# Altium integrated library TI Amplifiers and Linear Special Function Amplifier.IntLib: 708 symbols (part 3 of 47)
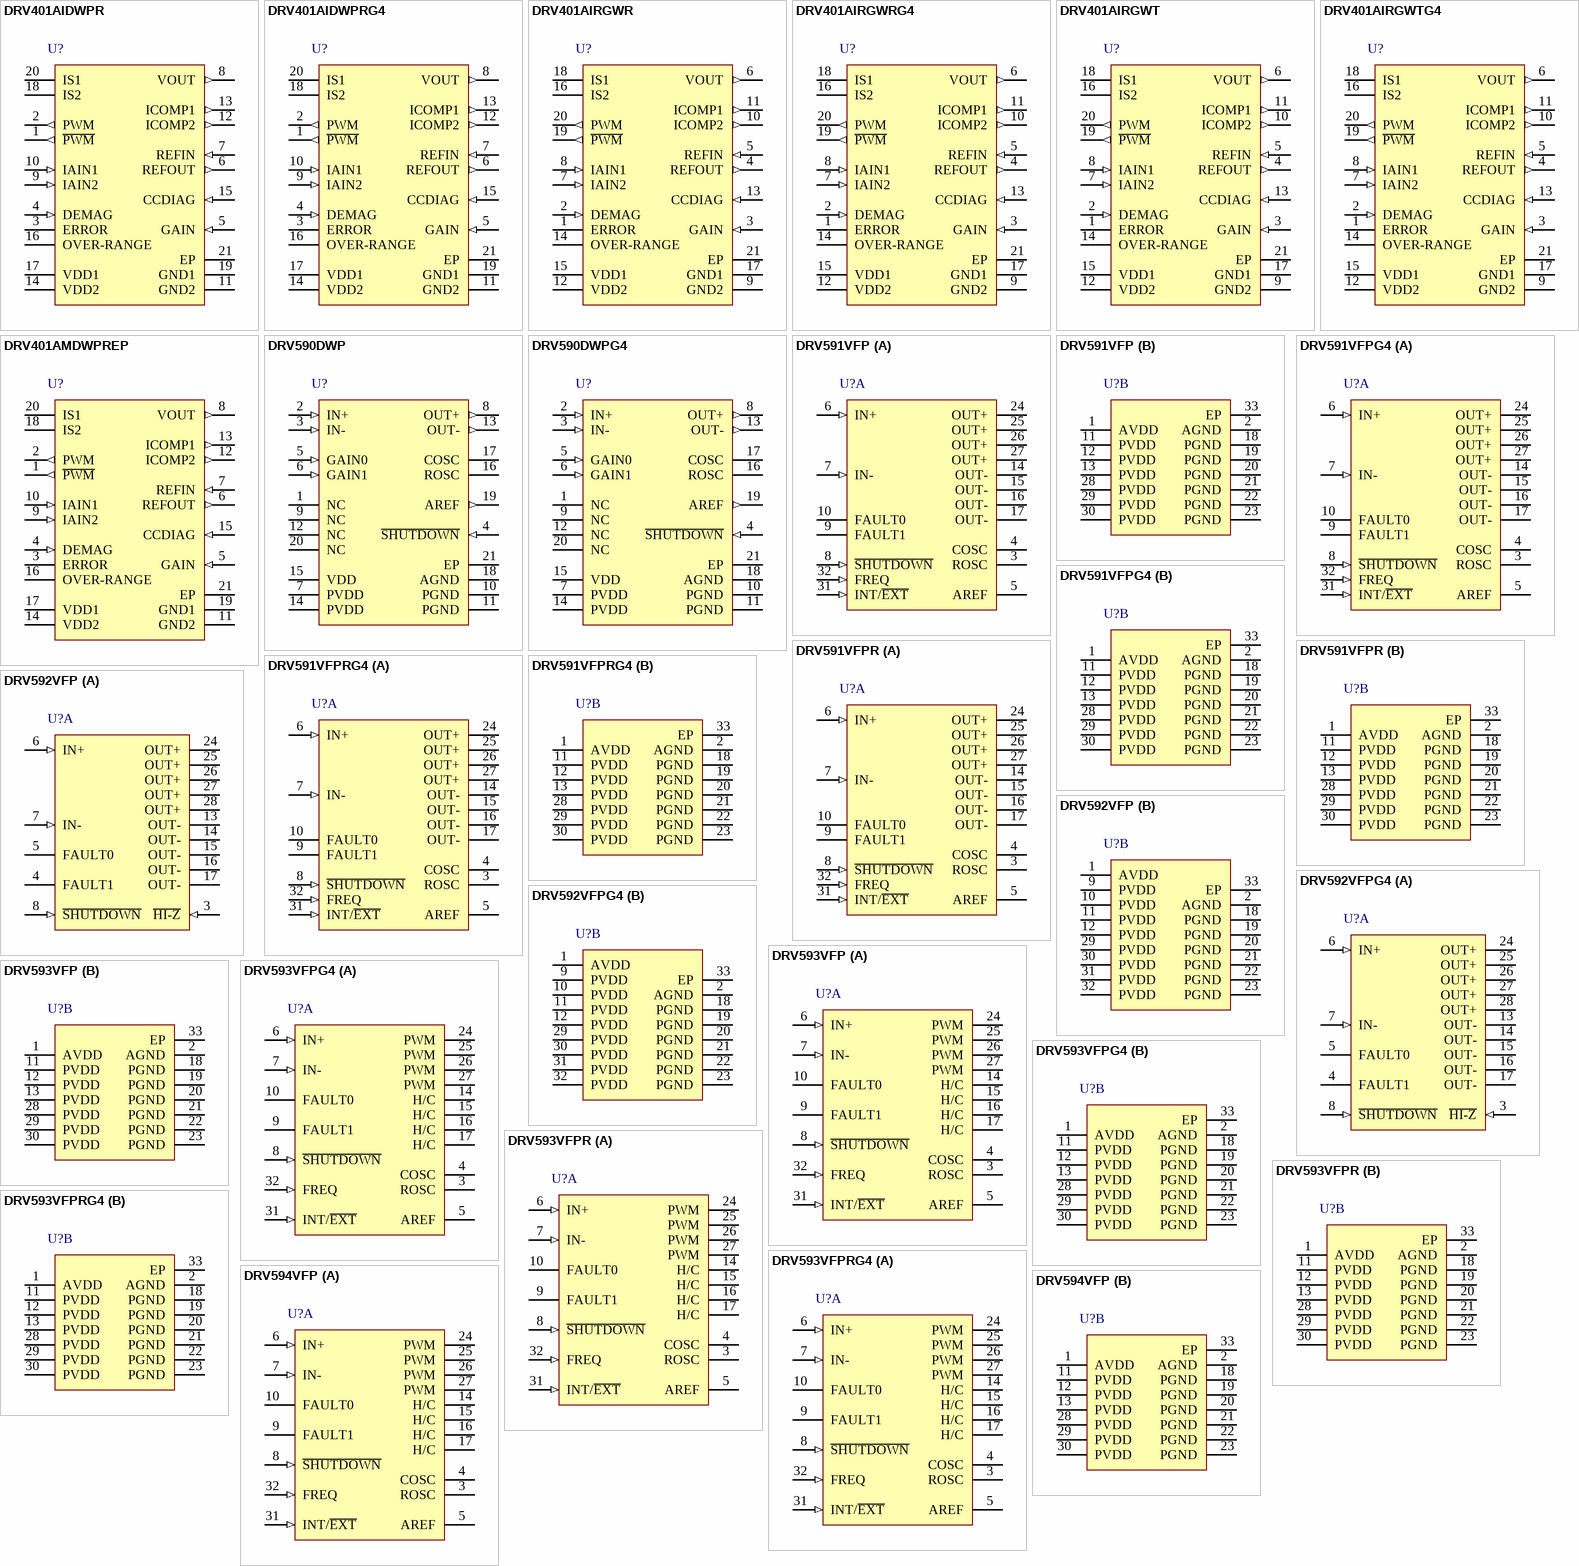
[diagram p41: symbols DRV401AIDWPR to DRV594VFP]

## DRV401AMDWPREP
designator U?
Enhanced Product Sensor Signal Conditioning for Closed-Loop Magnetic Current Sensor, -50 to 150 degC, 20-pin SOP (DWP20), Green (RoHS & no Sb/Br); Manufacturer: Texas Instruments; PartNumber: DRV401AMDWPREP; Iq(Max)(mA): 6.8; Vs(Max)(V): 5.5; Vs(Min)(V): 4.5; DatasheetVersion: SBVS104B; PackageVersion: 4147575/C, 02/2005; PackageReference: DWP20-3730X2350TP; PackageDescription: 20-Pin PowerPAD(TM) Plastic Small-Outline Package, Body 12.825 x 7.52 mm, Pitch 1.27 mm; Supplier 1: Digi-Key; Supplier Part Number 1: 296-23584-2-ND; Supplier 2: Digi-Key; Supplier Part Number 2: 296-23584-1-ND; Supplier 3: Digi-Key; Supplier Part Number 3: 296-23584-6-ND; Supplier 4: Mouser; Supplier Part Number 4: 595-DRV401AMDWPREP; Eco-Plan: Green (RoHS & no Sb/Br); Mounting Technology: Surface Mount; ComponentLink1Description: Manufacturer URL; ComponentLink1URL: http://www.ti.com/; ComponentLink2Description: Datasheet; ComponentLink2URL: http://www.ti.com/general/docs/lit/getliterature.tsp?genericPartNumber=DRV401-EP&fileType=pdf; ComponentLink3Description: Package Specification; ComponentLink3URL: http://www.ti.com/litv/pdf/mpds032b
footprint TI-DWP20-3730X2350TP_N (SOP, 20-Leads, Body 12.825x7.52mm, Pitch 1.27mm, Thermal Pad 3.47X2.35mm, IPC Medium Density)
footprint TI-DWP20-3730X2350TP_L (SOP, 20-Leads, Body 12.825x7.52mm, Pitch 1.27mm, Thermal Pad 3.47X2.35mm, IPC High Density)
footprint TI-DWP20-3730X2350TP_M (SOP, 20-Leads, Body 12.825x7.52mm, Pitch 1.27mm, Thermal Pad 3.47X2.35mm, IPC Low Density)
pins: 1 ~{PWM} (out) "PWM output from probe circuit (inverted).", 2 PWM (out) "PWM output from probe circuit.", 3 ERROR (oc) "Error flag: open-drain output, see the Error Conditions section.", 4 DEMAG (in) "Control input, see the Demagnetization section.", 5 GAIN (in) "Control input for open-loop gain: low = normal, high = -8 dB.", 6 REFOUT (out) "Output for internal 2.5 V reference voltage.", 7 REFIN (in) "Input for zero reference to differential amplifier.", 8 VOUT (out) "Output for differential amplifier.", 9 IAIN2 (in) "Connect to GND1.Noninverting input of differential amplifier.", 10 IAIN1 (in) "Inverting input of differential amplifier.", 11 GND2 (power) "Ground connection.", 12 ICOMP2 (out) "Output 2 of compensation coil driver.", 13 ICOMP1 (out) "Output 1 of compensation coil driver.", 14 VDD2 (power) "Supply voltage. Connect to VDD1.", 15 CCDIAG (in) "Control input for wire-break detection: high = enable.", 16 OVER-RANGE (oc) "Open-drain output for over-range indication: low = over-range.", 17 VDD1 (power) "Supply voltage.", 18 IS2 "Probe connection 2.", 19 GND1 (power) "Ground connection.", 20 IS1 "Probe connection 1.", 21 EP (power) "Connect to GND1."

## DRV590DWP
designator U?
High Efficiency PWM Power Driver, -40 to 85 degC, 20-pin SOP (DWP20), Green (RoHS & no Sb/Br); Manufacturer: Texas Instruments; PartNumber: DRV590DWP; High Current: TRUE; Iq(mA): 4.5; rDS(on)(Ohms): 0.5; Switching Frequency (Single-Ended)(kHz): 500; Vs(Max)(V): 5.5; Vs(Min)(V): 2.7; DatasheetVersion: SLOS365A; PackageVersion: 4147575/C, 02/2005; PackageReference: DWP20-3730X2350TP; PackageDescription: 20-Pin PowerPAD(TM) Plastic Small-Outline Package, Body 12.825 x 7.52 mm, Pitch 1.27 mm; Supplier 1: Digi-Key; Supplier Part Number 1: 296-12201-5-ND; Supplier 2: Mouser; Supplier Part Number 2: 595-DRV590DWP; Eco-Plan: Green (RoHS & no Sb/Br); Mounting Technology: Surface Mount; ComponentLink1Description: Manufacturer URL; ComponentLink1URL: http://www.ti.com/; ComponentLink2Description: Datasheet; ComponentLink2URL: http://www.ti.com/general/docs/lit/getliterature.tsp?genericPartNumber=DRV590&fileType=pdf; ComponentLink3Description: Package Specification; ComponentLink3URL: http://www.ti.com/litv/pdf/mpds032b
footprint TI-DWP20-3730X2350TP_N (SOP, 20-Leads, Body 12.825x7.52mm, Pitch 1.27mm, Thermal Pad 3.47X2.35mm, IPC Medium Density)
footprint TI-DWP20-3730X2350TP_L (SOP, 20-Leads, Body 12.825x7.52mm, Pitch 1.27mm, Thermal Pad 3.47X2.35mm, IPC High Density)
footprint TI-DWP20-3730X2350TP_M (SOP, 20-Leads, Body 12.825x7.52mm, Pitch 1.27mm, Thermal Pad 3.47X2.35mm, IPC Low Density)
pins: 1 NC "Not connected", 2 IN+ (in) "Positive differential input", 3 IN- (in) "Negative differential input", 4 ~{SHUTDOWN} (in) "Places the amplifier in shutdown mode if a TTL logic low is placed on this terminal,and normal operation if a TTL logic high is placed on this terminal.", 5 GAIN0 (in) "Bit 0 of gain control (TTL logic level)", 6 GAIN1 (in) "Bit 1 of gain control (TTL logic level)", 7 PVDD (power) "High-current power supplies (2)", 8 OUT+ (out) "Positive BTL output", 9 NC "Not connected", 10 PGND (power) "High-current grounds (2)", 11 PGND (power) "High-current grounds (2)", 12 NC "Not connected", 13 OUT- (out) "Negative BTL output", 14 PVDD (power) "High-current power supplies (2)", 15 VDD (power) "Analog power supply", 16 ROSC "Connect resistor to ground to set oscillation frequency (120 kohm).", 17 COSC "Connect capacitor to ground to set oscillation frequency (220 pF).", 18 AGND (power) "Analog ground", 19 AREF (out) "Connect capacitor to ground for AREF voltage filtering (1 uF).", 20 NC "Not connected", 21 EP

## DRV590DWPG4
designator U?
High Efficiency PWM Power Driver, -40 to 85 degC, 20-pin SOP (DWP20), Green (RoHS & no Sb/Br); Manufacturer: Texas Instruments; PartNumber: DRV590DWPG4; High Current: TRUE; Iq(mA): 4.5; rDS(on)(Ohms): 0.5; Switching Frequency (Single-Ended)(kHz): 500; Vs(Max)(V): 5.5; Vs(Min)(V): 2.7; DatasheetVersion: SLOS365A; PackageVersion: 4147575/C, 02/2005; PackageReference: DWP20-3730X2350TP; PackageDescription: 20-Pin PowerPAD(TM) Plastic Small-Outline Package, Body 12.825 x 7.52 mm, Pitch 1.27 mm; Supplier 1: Digi-Key; Supplier Part Number 1: DRV590DWPG4-ND; Supplier 2: Newark; Supplier Part Number 2: 41M3153; Supplier 3: Mouser; Supplier Part Number 3: 595-DRV590DWPG4; Eco-Plan: Green (RoHS & no Sb/Br); Mounting Technology: Surface Mount; ComponentLink1Description: Manufacturer URL; ComponentLink1URL: http://www.ti.com/; ComponentLink2Description: Datasheet; ComponentLink2URL: http://www.ti.com/general/docs/lit/getliterature.tsp?genericPartNumber=DRV590&fileType=pdf; ComponentLink3Description: Package Specification; ComponentLink3URL: http://www.ti.com/litv/pdf/mpds032b
footprint TI-DWP20-3730X2350TP_N (SOP, 20-Leads, Body 12.825x7.52mm, Pitch 1.27mm, Thermal Pad 3.47X2.35mm, IPC Medium Density)
footprint TI-DWP20-3730X2350TP_L (SOP, 20-Leads, Body 12.825x7.52mm, Pitch 1.27mm, Thermal Pad 3.47X2.35mm, IPC High Density)
footprint TI-DWP20-3730X2350TP_M (SOP, 20-Leads, Body 12.825x7.52mm, Pitch 1.27mm, Thermal Pad 3.47X2.35mm, IPC Low Density)
pins: 1 NC "Not connected", 2 IN+ (in) "Positive differential input", 3 IN- (in) "Negative differential input", 4 ~{SHUTDOWN} (in) "Places the amplifier in shutdown mode if a TTL logic low is placed on this terminal,and normal operation if a TTL logic high is placed on this terminal.", 5 GAIN0 (in) "Bit 0 of gain control (TTL logic level)", 6 GAIN1 (in) "Bit 1 of gain control (TTL logic level)", 7 PVDD (power) "High-current power supplies (2)", 8 OUT+ (out) "Positive BTL output", 9 NC "Not connected", 10 PGND (power) "High-current grounds (2)", 11 PGND (power) "High-current grounds (2)", 12 NC "Not connected", 13 OUT- (out) "Negative BTL output", 14 PVDD (power) "High-current power supplies (2)", 15 VDD (power) "Analog power supply", 16 ROSC "Connect resistor to ground to set oscillation frequency (120 kohm).", 17 COSC "Connect capacitor to ground to set oscillation frequency (220 pF).", 18 AGND (power) "Analog ground", 19 AREF (out) "Connect capacitor to ground for AREF voltage filtering (1 uF).", 20 NC "Not connected", 21 EP

## DRV591VFP
designator U?
High-Efficiency PWM Power Driver, -40 to 85 degC, 32-pin QFP (VFP32), Green (RoHS & no Sb/Br); Manufacturer: Texas Instruments; PartNumber: DRV591VFP; Iq(mA): 4.6; rDS(on)(Ohms): 0.065; Vs(Max)(V): 5.5; Vs(Min)(V): 2.8; DatasheetVersion: SLOS389A; PackageVersion: 4200791/C, 04/2012; PackageReference: VFP32-3505X3505TP; PackageDescription: 32-Pin PowerPAD(TM) Plastic Quad Flatpack, Body 7 x 7 mm, Pitch 0.8 mm; Supplier 1: Digi-Key; Supplier Part Number 1: 296-12430-ND; Supplier 2: Farnell; Supplier Part Number 2: 1212390; Supplier 3: Newark; Supplier Part Number 3: 80K7302; Supplier 4: Mouser; Supplier Part Number 4: 595-DRV591VFP; Eco-Plan: Green (RoHS & no Sb/Br); Mounting Technology: Surface Mount; Code_JEDEC: MS-026; ComponentLink1Description: Manufacturer URL; ComponentLink1URL: http://www.ti.com/; ComponentLink2Description: Datasheet; ComponentLink2URL: http://www.ti.com/general/docs/lit/getliterature.tsp?genericPartNumber=DRV591&fileType=pdf; ComponentLink3Description: Package Specification; ComponentLink3URL: http://www.ti.com/lit/ml/mpqf098b/mpqf098b.pdf
footprint TI-VFP32-3505X3505TP_N (QFP, 32-Leads, Body 7x7mm, Pitch 0.8mm, Thermal Pad 3.505x3.505mm, IPC Medium Density)
footprint TI-VFP32-3505X3505TP_L (QFP, 32-Leads, Body 7x7mm, Pitch 0.8mm, Thermal Pad 3.505x3.505mm, IPC High Density)
footprint TI-VFP32-3505X3505TP_M (QFP, 32-Leads, Body 7x7mm, Pitch 0.8mm, Thermal Pad 3.505x3.505mm, IPC Low Density)
part A pins: 3 ROSC "Connect 120kohm resistor to AGND to set oscillation frequency (either 500 kHz or 100 kHz). Not needed if an external clock is used.", 4 COSC "Connect capacitor to ground to set oscillation frequency (220 pF for 500 kHz, 1 nF for 100 kHz) when the internal oscillator is selected; connect clock signal when an external oscillator is used", 5 AREF "Connect 1 uF capacitor to ground for AREF voltage filtering", 6 IN+ (in) "Positive differential input", 7 IN- (in) "Negative differential input", 8 ~{SHUTDOWN} (in) "Places the amplifier in shutdown mode when a TTL logic low is applied to this terminal; places the amplifier in normal operation when a TTL logic high is applied", 9 FAULT1 (hiz) "Fault flag 1, high when active open drain output", 10 FAULT0 (hiz) "Fault flag 0, low when active open drain output", 14 OUT- (hiz) "Negative bridge-tied load (BTL) output", 15 OUT- (hiz) "Negative bridge-tied load (BTL) output", 16 OUT- (hiz) "Negative bridge-tied load (BTL) output", 17 OUT- (hiz) "Negative bridge-tied load (BTL) output", 24 OUT+ (hiz) "Positive bridge-tied load (BTL) output", 25 OUT+ (hiz) "Positive bridge-tied load (BTL) output", 26 OUT+ (hiz) "Positive bridge-tied load (BTL) output", 27 OUT+ (hiz) "Positive bridge-tied load (BTL) output", 31 INT/~{EXT} (in) "Selects the internal oscillator when a TTL logic high is applied to this terminal; selects the use of an external oscillator when a TTL logic low is applied to this terminal", 32 FREQ (in) "Selects 500 kHz switching frequency when a TTL logic low is applied to this terminal; selects 100 kHz switching frequency when a TTL logic high is applied"
part B pins: 1 AVDD (power) "Analog power supply", 2 AGND (power) "Analog ground", 11 PVDD (power) "High-current power supply", 12 PVDD (power) "High-current power supply", 13 PVDD (power) "High-current power supply", 18 PGND (power) "High-current ground", 19 PGND (power) "High-current ground", 20 PGND (power) "High-current ground", 21 PGND (power) "High-current ground", 22 PGND (power) "High-current ground", 23 PGND (power) "High-current ground", 28 PVDD (power) "High-current power supply", 29 PVDD (power) "High-current power supply", 30 PVDD (power) "High-current power supply", 33 EP (power) "Exposed Pad"

## DRV591VFPG4
designator U?
High-Efficiency PWM Power Driver, -40 to 85 degC, 32-pin QFP (VFP32), Green (RoHS & no Sb/Br); Manufacturer: Texas Instruments; PartNumber: DRV591VFPG4; Iq(mA): 4.6; rDS(on)(Ohms): 0.065; Vs(Max)(V): 5.5; Vs(Min)(V): 2.8; DatasheetVersion: SLOS389A; PackageVersion: 4200791/C, 04/2012; PackageReference: VFP32-3505X3505TP; PackageDescription: 32-Pin PowerPAD(TM) Plastic Quad Flatpack, Body 7 x 7 mm, Pitch 0.8 mm; Supplier 1: Digi-Key; Supplier Part Number 1: DRV591VFPG4-ND; Supplier 2: Newark; Supplier Part Number 2: 24K4550; Supplier 3: Mouser; Supplier Part Number 3: 595-DRV591VFPG4; Eco-Plan: Green (RoHS & no Sb/Br); Mounting Technology: Surface Mount; Code_JEDEC: MS-026; ComponentLink1Description: Manufacturer URL; ComponentLink1URL: http://www.ti.com/; ComponentLink2Description: Datasheet; ComponentLink2URL: http://www.ti.com/general/docs/lit/getliterature.tsp?genericPartNumber=DRV591&fileType=pdf; ComponentLink3Description: Package Specification; ComponentLink3URL: http://www.ti.com/lit/ml/mpqf098b/mpqf098b.pdf
footprint TI-VFP32-3505X3505TP_N (QFP, 32-Leads, Body 7x7mm, Pitch 0.8mm, Thermal Pad 3.505x3.505mm, IPC Medium Density)
footprint TI-VFP32-3505X3505TP_L (QFP, 32-Leads, Body 7x7mm, Pitch 0.8mm, Thermal Pad 3.505x3.505mm, IPC High Density)
footprint TI-VFP32-3505X3505TP_M (QFP, 32-Leads, Body 7x7mm, Pitch 0.8mm, Thermal Pad 3.505x3.505mm, IPC Low Density)
part A pins: 3 ROSC "Connect 120kohm resistor to AGND to set oscillation frequency (either 500 kHz or 100 kHz). Not needed if an external clock is used.", 4 COSC "Connect capacitor to ground to set oscillation frequency (220 pF for 500 kHz, 1 nF for 100 kHz) when the internal oscillator is selected; connect clock signal when an external oscillator is used", 5 AREF "Connect 1 uF capacitor to ground for AREF voltage filtering", 6 IN+ (in) "Positive differential input", 7 IN- (in) "Negative differential input", 8 ~{SHUTDOWN} (in) "Places the amplifier in shutdown mode when a TTL logic low is applied to this terminal; places the amplifier in normal operation when a TTL logic high is applied", 9 FAULT1 (hiz) "Fault flag 1, high when active open drain output", 10 FAULT0 (hiz) "Fault flag 0, low when active open drain output", 14 OUT- (hiz) "Negative bridge-tied load (BTL) output", 15 OUT- (hiz) "Negative bridge-tied load (BTL) output", 16 OUT- (hiz) "Negative bridge-tied load (BTL) output", 17 OUT- (hiz) "Negative bridge-tied load (BTL) output", 24 OUT+ (hiz) "Positive bridge-tied load (BTL) output", 25 OUT+ (hiz) "Positive bridge-tied load (BTL) output", 26 OUT+ (hiz) "Positive bridge-tied load (BTL) output", 27 OUT+ (hiz) "Positive bridge-tied load (BTL) output", 31 INT/~{EXT} (in) "Selects the internal oscillator when a TTL logic high is applied to this terminal; selects the use of an external oscillator when a TTL logic low is applied to this terminal", 32 FREQ (in) "Selects 500 kHz switching frequency when a TTL logic low is applied to this terminal; selects 100 kHz switching frequency when a TTL logic high is applied"
part B pins: 1 AVDD (power) "Analog power supply", 2 AGND (power) "Analog ground", 11 PVDD (power) "High-current power supply", 12 PVDD (power) "High-current power supply", 13 PVDD (power) "High-current power supply", 18 PGND (power) "High-current ground", 19 PGND (power) "High-current ground", 20 PGND (power) "High-current ground", 21 PGND (power) "High-current ground", 22 PGND (power) "High-current ground", 23 PGND (power) "High-current ground", 28 PVDD (power) "High-current power supply", 29 PVDD (power) "High-current power supply", 30 PVDD (power) "High-current power supply", 33 EP (power) "Exposed Pad"

## DRV591VFPR
designator U?
High-Efficiency PWM Power Driver, -40 to 85 degC, 32-pin QFP (VFP32), Green (RoHS & no Sb/Br); Manufacturer: Texas Instruments; PartNumber: DRV591VFPR; Iq(mA): 4.6; rDS(on)(Ohms): 0.065; Vs(Max)(V): 5.5; Vs(Min)(V): 2.8; DatasheetVersion: SLOS389A; PackageVersion: 4200791/C, 04/2012; PackageReference: VFP32-3505X3505TP; PackageDescription: 32-Pin PowerPAD(TM) Plastic Quad Flatpack, Body 7 x 7 mm, Pitch 0.8 mm; Supplier 1: Digi-Key; Supplier Part Number 1: DRV591VFPR-ND; Supplier 2: Newark; Supplier Part Number 2: 74C9533; Supplier 3: Mouser; Supplier Part Number 3: 595-DRV591VFPR; Eco-Plan: Green (RoHS & no Sb/Br); Mounting Technology: Surface Mount; Code_JEDEC: MS-026; ComponentLink1Description: Manufacturer URL; ComponentLink1URL: http://www.ti.com/; ComponentLink2Description: Datasheet; ComponentLink2URL: http://www.ti.com/general/docs/lit/getliterature.tsp?genericPartNumber=DRV591&fileType=pdf; ComponentLink3Description: Package Specification; ComponentLink3URL: http://www.ti.com/lit/ml/mpqf098b/mpqf098b.pdf
footprint TI-VFP32-3505X3505TP_N (QFP, 32-Leads, Body 7x7mm, Pitch 0.8mm, Thermal Pad 3.505x3.505mm, IPC Medium Density)
footprint TI-VFP32-3505X3505TP_L (QFP, 32-Leads, Body 7x7mm, Pitch 0.8mm, Thermal Pad 3.505x3.505mm, IPC High Density)
footprint TI-VFP32-3505X3505TP_M (QFP, 32-Leads, Body 7x7mm, Pitch 0.8mm, Thermal Pad 3.505x3.505mm, IPC Low Density)
part A pins: 3 ROSC "Connect 120kohm resistor to AGND to set oscillation frequency (either 500 kHz or 100 kHz). Not needed if an external clock is used.", 4 COSC "Connect capacitor to ground to set oscillation frequency (220 pF for 500 kHz, 1 nF for 100 kHz) when the internal oscillator is selected; connect clock signal when an external oscillator is used", 5 AREF "Connect 1 uF capacitor to ground for AREF voltage filtering", 6 IN+ (in) "Positive differential input", 7 IN- (in) "Negative differential input", 8 ~{SHUTDOWN} (in) "Places the amplifier in shutdown mode when a TTL logic low is applied to this terminal; places the amplifier in normal operation when a TTL logic high is applied", 9 FAULT1 (hiz) "Fault flag 1, high when active open drain output", 10 FAULT0 (hiz) "Fault flag 0, low when active open drain output", 14 OUT- (hiz) "Negative bridge-tied load (BTL) output", 15 OUT- (hiz) "Negative bridge-tied load (BTL) output", 16 OUT- (hiz) "Negative bridge-tied load (BTL) output", 17 OUT- (hiz) "Negative bridge-tied load (BTL) output", 24 OUT+ (hiz) "Positive bridge-tied load (BTL) output", 25 OUT+ (hiz) "Positive bridge-tied load (BTL) output", 26 OUT+ (hiz) "Positive bridge-tied load (BTL) output", 27 OUT+ (hiz) "Positive bridge-tied load (BTL) output", 31 INT/~{EXT} (in) "Selects the internal oscillator when a TTL logic high is applied to this terminal; selects the use of an external oscillator when a TTL logic low is applied to this terminal", 32 FREQ (in) "Selects 500 kHz switching frequency when a TTL logic low is applied to this terminal; selects 100 kHz switching frequency when a TTL logic high is applied"
part B pins: 1 AVDD (power) "Analog power supply", 2 AGND (power) "Analog ground", 11 PVDD (power) "High-current power supply", 12 PVDD (power) "High-current power supply", 13 PVDD (power) "High-current power supply", 18 PGND (power) "High-current ground", 19 PGND (power) "High-current ground", 20 PGND (power) "High-current ground", 21 PGND (power) "High-current ground", 22 PGND (power) "High-current ground", 23 PGND (power) "High-current ground", 28 PVDD (power) "High-current power supply", 29 PVDD (power) "High-current power supply", 30 PVDD (power) "High-current power supply", 33 EP (power) "Exposed Pad"

## DRV591VFPRG4
designator U?
High-Efficiency PWM Power Driver, -40 to 85 degC, 32-pin QFP (VFP32), Green (RoHS & no Sb/Br); Manufacturer: Texas Instruments; PartNumber: DRV591VFPRG4; Iq(mA): 4.6; rDS(on)(Ohms): 0.065; Vs(Max)(V): 5.5; Vs(Min)(V): 2.8; DatasheetVersion: SLOS389A; PackageVersion: 4200791/C, 04/2012; PackageReference: VFP32-3505X3505TP; PackageDescription: 32-Pin PowerPAD(TM) Plastic Quad Flatpack, Body 7 x 7 mm, Pitch 0.8 mm; Supplier 1: Digi-Key; Supplier Part Number 1: DRV591VFPRG4-ND; Supplier 2: Mouser; Supplier Part Number 2: 595-DRV591VFPRG4; Eco-Plan: Green (RoHS & no Sb/Br); Mounting Technology: Surface Mount; Code_JEDEC: MS-026; ComponentLink1Description: Manufacturer URL; ComponentLink1URL: http://www.ti.com/; ComponentLink2Description: Datasheet; ComponentLink2URL: http://www.ti.com/general/docs/lit/getliterature.tsp?genericPartNumber=DRV591&fileType=pdf; ComponentLink3Description: Package Specification; ComponentLink3URL: http://www.ti.com/lit/ml/mpqf098b/mpqf098b.pdf
footprint TI-VFP32-3505X3505TP_N (QFP, 32-Leads, Body 7x7mm, Pitch 0.8mm, Thermal Pad 3.505x3.505mm, IPC Medium Density)
footprint TI-VFP32-3505X3505TP_L (QFP, 32-Leads, Body 7x7mm, Pitch 0.8mm, Thermal Pad 3.505x3.505mm, IPC High Density)
footprint TI-VFP32-3505X3505TP_M (QFP, 32-Leads, Body 7x7mm, Pitch 0.8mm, Thermal Pad 3.505x3.505mm, IPC Low Density)
part A pins: 3 ROSC "Connect 120kohm resistor to AGND to set oscillation frequency (either 500 kHz or 100 kHz). Not needed if an external clock is used.", 4 COSC "Connect capacitor to ground to set oscillation frequency (220 pF for 500 kHz, 1 nF for 100 kHz) when the internal oscillator is selected; connect clock signal when an external oscillator is used", 5 AREF "Connect 1 uF capacitor to ground for AREF voltage filtering", 6 IN+ (in) "Positive differential input", 7 IN- (in) "Negative differential input", 8 ~{SHUTDOWN} (in) "Places the amplifier in shutdown mode when a TTL logic low is applied to this terminal; places the amplifier in normal operation when a TTL logic high is applied", 9 FAULT1 (hiz) "Fault flag 1, high when active open drain output", 10 FAULT0 (hiz) "Fault flag 0, low when active open drain output", 14 OUT- (hiz) "Negative bridge-tied load (BTL) output", 15 OUT- (hiz) "Negative bridge-tied load (BTL) output", 16 OUT- (hiz) "Negative bridge-tied load (BTL) output", 17 OUT- (hiz) "Negative bridge-tied load (BTL) output", 24 OUT+ (hiz) "Positive bridge-tied load (BTL) output", 25 OUT+ (hiz) "Positive bridge-tied load (BTL) output", 26 OUT+ (hiz) "Positive bridge-tied load (BTL) output", 27 OUT+ (hiz) "Positive bridge-tied load (BTL) output", 31 INT/~{EXT} (in) "Selects the internal oscillator when a TTL logic high is applied to this terminal; selects the use of an external oscillator when a TTL logic low is applied to this terminal", 32 FREQ (in) "Selects 500 kHz switching frequency when a TTL logic low is applied to this terminal; selects 100 kHz switching frequency when a TTL logic high is applied"
part B pins: 1 AVDD (power) "Analog power supply", 2 AGND (power) "Analog ground", 11 PVDD (power) "High-current power supply", 12 PVDD (power) "High-current power supply", 13 PVDD (power) "High-current power supply", 18 PGND (power) "High-current ground", 19 PGND (power) "High-current ground", 20 PGND (power) "High-current ground", 21 PGND (power) "High-current ground", 22 PGND (power) "High-current ground", 23 PGND (power) "High-current ground", 28 PVDD (power) "High-current power supply", 29 PVDD (power) "High-current power supply", 30 PVDD (power) "High-current power supply", 33 EP (power) "Exposed Pad"

## DRV592VFP
designator U?
High-Efficiency H-Bridge (Requires External PWM), -40 to 85 degC, 32-pin QFP (VFP32), Green (RoHS & no Sb/Br); Manufacturer: Texas Instruments; PartNumber: DRV592VFP; Iq(mA): 0.3; rDS(on)(Ohms): 0.065; Vs(Max)(V): 5.8; Vs(Min)(V): 2.8; DatasheetVersion: SLOS390A; PackageVersion: 4200791/C, 04/2012; PackageReference: VFP32-3505X3505TP; PackageDescription: 32-Pin PowerPAD(TM) Plastic Quad Flatpack, Body 7 x 7 mm, Pitch 0.8 mm; Supplier 1: Digi-Key; Supplier Part Number 1: 296-12550-ND; Supplier 2: Newark; Supplier Part Number 2: 74C9535; Supplier 3: Mouser; Supplier Part Number 3: 595-DRV592VFP; Eco-Plan: Green (RoHS & no Sb/Br); Mounting Technology: Surface Mount; Code_JEDEC: MS-026; ComponentLink1Description: Manufacturer URL; ComponentLink1URL: http://www.ti.com/; ComponentLink2Description: Datasheet; ComponentLink2URL: http://www.ti.com/general/docs/lit/getliterature.tsp?genericPartNumber=DRV592&fileType=pdf; ComponentLink3Description: Package Specification; ComponentLink3URL: http://www.ti.com/lit/ml/mpqf098b/mpqf098b.pdf
footprint TI-VFP32-3505X3505TP_N (QFP, 32-Leads, Body 7x7mm, Pitch 0.8mm, Thermal Pad 3.505x3.505mm, IPC Medium Density)
footprint TI-VFP32-3505X3505TP_L (QFP, 32-Leads, Body 7x7mm, Pitch 0.8mm, Thermal Pad 3.505x3.505mm, IPC High Density)
footprint TI-VFP32-3505X3505TP_M (QFP, 32-Leads, Body 7x7mm, Pitch 0.8mm, Thermal Pad 3.505x3.505mm, IPC Low Density)
part A pins: 3 ~{HI-Z} (in) "Places both outputs of the H-bridge into a high-impedance state (2 kohm to ground) when a TTL logic low is applied to this terminal; normal operation when a TTL logic high is applied.", 4 FAULT1 (hiz) "Fault flag 1, low when active open drain output (see application information)", 5 FAULT0 (hiz) "Fault flag 0, low when active open drain output (see application information)", 6 IN+ (in) "Positive H-bridge input", 7 IN- (in) "Negative H-bridge input", 8 ~{SHUTDOWN} (in) "Places the amplifier in shutdown mode when a TTL logic low is applied to this terminal; places the amplifier in normal operation when a TTL logic high is applied", 13 OUT- (hiz) "Negative H-bridge output (5 terminals)", 14 OUT- (hiz) "Negative H-bridge output (5 terminals)", 15 OUT- (hiz) "Negative H-bridge output (5 terminals)", 16 OUT- (hiz) "Negative H-bridge output (5 terminals)", 17 OUT- (hiz) "Negative H-bridge output (5 terminals)", 24 OUT+ (hiz) "Positive H-bridge output (5 terminals)", 25 OUT+ (hiz) "Positive H-bridge output (5 terminals)", 26 OUT+ (hiz) "Positive H-bridge output (5 terminals)", 27 OUT+ (hiz) "Positive H-bridge output (5 terminals)", 28 OUT+ (hiz) "Positive H-bridge output (5 terminals)"
part B pins: 1 AVDD (power) "Analog power supply", 2 AGND (power) "Analog ground", 9 PVDD (power) "High-current power supply (8 terminals)", 10 PVDD (power) "High-current power supply (8 terminals)", 11 PVDD (power) "High-current power supply (8 terminals)", 12 PVDD (power) "High-current power supply (8 terminals)", 18 PGND (power) "High-current ground (6 terminals)", 19 PGND (power) "High-current ground (6 terminals)", 20 PGND (power) "High-current ground (6 terminals)", 21 PGND (power) "High-current ground (6 terminals)", 22 PGND (power) "High-current ground (6 terminals)", 23 PGND (power) "High-current ground (6 terminals)", 29 PVDD (power) "High-current power supply (8 terminals)", 30 PVDD (power) "High-current power supply (8 terminals)", 31 PVDD (power) "High-current power supply (8 terminals)", 32 PVDD (power) "High-current power supply (8 terminals)", 33 EP (power) "Exposed thermal pad"

## DRV592VFPG4
designator U?
High-Efficiency H-Bridge (Requires External PWM), -40 to 85 degC, 32-pin QFP (VFP32), Green (RoHS & no Sb/Br); Manufacturer: Texas Instruments; PartNumber: DRV592VFPG4; Iq(mA): 0.3; rDS(on)(Ohms): 0.065; Vs(Max)(V): 5.8; Vs(Min)(V): 2.8; DatasheetVersion: SLOS390A; PackageVersion: 4200791/C, 04/2012; PackageReference: VFP32-3505X3505TP; PackageDescription: 32-Pin PowerPAD(TM) Plastic Quad Flatpack, Body 7 x 7 mm, Pitch 0.8 mm; Supplier 1: Mouser; Supplier Part Number 1: N/A; Eco-Plan: Green (RoHS & no Sb/Br); Mounting Technology: Surface Mount; Code_JEDEC: MS-026; ComponentLink1Description: Manufacturer URL; ComponentLink1URL: http://www.ti.com/; ComponentLink2Description: Datasheet; ComponentLink2URL: http://www.ti.com/general/docs/lit/getliterature.tsp?genericPartNumber=DRV592&fileType=pdf; ComponentLink3Description: Package Specification; ComponentLink3URL: http://www.ti.com/lit/ml/mpqf098b/mpqf098b.pdf
footprint TI-VFP32-3505X3505TP_N (QFP, 32-Leads, Body 7x7mm, Pitch 0.8mm, Thermal Pad 3.505x3.505mm, IPC Medium Density)
footprint TI-VFP32-3505X3505TP_L (QFP, 32-Leads, Body 7x7mm, Pitch 0.8mm, Thermal Pad 3.505x3.505mm, IPC High Density)
footprint TI-VFP32-3505X3505TP_M (QFP, 32-Leads, Body 7x7mm, Pitch 0.8mm, Thermal Pad 3.505x3.505mm, IPC Low Density)
part A pins: 3 ~{HI-Z} (in) "Places both outputs of the H-bridge into a high-impedance state (2 kohm to ground) when a TTL logic low is applied to this terminal; normal operation when a TTL logic high is applied.", 4 FAULT1 (hiz) "Fault flag 1, low when active open drain output (see application information)", 5 FAULT0 (hiz) "Fault flag 0, low when active open drain output (see application information)", 6 IN+ (in) "Positive H-bridge input", 7 IN- (in) "Negative H-bridge input", 8 ~{SHUTDOWN} (in) "Places the amplifier in shutdown mode when a TTL logic low is applied to this terminal; places the amplifier in normal operation when a TTL logic high is applied", 13 OUT- (hiz) "Negative H-bridge output (5 terminals)", 14 OUT- (hiz) "Negative H-bridge output (5 terminals)", 15 OUT- (hiz) "Negative H-bridge output (5 terminals)", 16 OUT- (hiz) "Negative H-bridge output (5 terminals)", 17 OUT- (hiz) "Negative H-bridge output (5 terminals)", 24 OUT+ (hiz) "Positive H-bridge output (5 terminals)", 25 OUT+ (hiz) "Positive H-bridge output (5 terminals)", 26 OUT+ (hiz) "Positive H-bridge output (5 terminals)", 27 OUT+ (hiz) "Positive H-bridge output (5 terminals)", 28 OUT+ (hiz) "Positive H-bridge output (5 terminals)"
part B pins: 1 AVDD (power) "Analog power supply", 2 AGND (power) "Analog ground", 9 PVDD (power) "High-current power supply (8 terminals)", 10 PVDD (power) "High-current power supply (8 terminals)", 11 PVDD (power) "High-current power supply (8 terminals)", 12 PVDD (power) "High-current power supply (8 terminals)", 18 PGND (power) "High-current ground (6 terminals)", 19 PGND (power) "High-current ground (6 terminals)", 20 PGND (power) "High-current ground (6 terminals)", 21 PGND (power) "High-current ground (6 terminals)", 22 PGND (power) "High-current ground (6 terminals)", 23 PGND (power) "High-current ground (6 terminals)", 29 PVDD (power) "High-current power supply (8 terminals)", 30 PVDD (power) "High-current power supply (8 terminals)", 31 PVDD (power) "High-current power supply (8 terminals)", 32 PVDD (power) "High-current power supply (8 terminals)", 33 EP (power) "Exposed thermal pad"

## DRV593VFP
designator U?
+/-3 A High-Efficiency PWM Power Driver, -40 to 85 degC, 32-pin QFP (VFP32), Green (RoHS & no Sb/Br); Manufacturer: Texas Instruments; PartNumber: DRV593VFP; Iq(mA): 4; Iq(Max)(mA): 12; rDS(on)(Ohms): 0.06; Thermal Shutdown: TRUE; Vs(Max)(V): 5.5; Vs(Min)(V): 2.8; DatasheetVersion: SLOS401C; PackageVersion: 4200791/C, 04/2012; PackageReference: VFP32-3505X3505TP; PackageDescription: 32-Pin PowerPAD(TM) Plastic Quad Flatpack, Body 7 x 7 mm, Pitch 0.8 mm; Supplier 1: Digi-Key; Supplier Part Number 1: DRV593VFP-ND; Supplier 2: Newark; Supplier Part Number 2: 02E2693; Supplier 3: Mouser; Supplier Part Number 3: 595-DRV593VFP; Eco-Plan: Green (RoHS & no Sb/Br); Mounting Technology: Surface Mount; Code_JEDEC: MS-026; ComponentLink1Description: Manufacturer URL; ComponentLink1URL: http://www.ti.com/; ComponentLink2Description: Datasheet; ComponentLink2URL: http://www.ti.com/general/docs/lit/getliterature.tsp?genericPartNumber=DRV593&fileType=pdf; ComponentLink3Description: Package Specification; ComponentLink3URL: http://www.ti.com/lit/ml/mpqf098b/mpqf098b.pdf
footprint TI-VFP32-3505X3505TP_N (QFP, 32-Leads, Body 7x7mm, Pitch 0.8mm, Thermal Pad 3.505x3.505mm, IPC Medium Density)
footprint TI-VFP32-3505X3505TP_L (QFP, 32-Leads, Body 7x7mm, Pitch 0.8mm, Thermal Pad 3.505x3.505mm, IPC High Density)
footprint TI-VFP32-3505X3505TP_M (QFP, 32-Leads, Body 7x7mm, Pitch 0.8mm, Thermal Pad 3.505x3.505mm, IPC Low Density)
part A pins: 3 ROSC "Connect 120-kohm resistor to AGND to set oscillation frequency (either 500 kHz or 100 kHz). Not needed if an external clock is used", 4 COSC "Connect capacitor to ground to set oscillation frequency (220 pF for 500 kHz, 1 nF for 100 kHz) when the internal oscillator is selected; connect clock signal when an external oscillator is used", 5 AREF "Connect 1uF capacitor to ground for AREF voltage filtering", 6 IN+ (in) "Positive differential input", 7 IN- (in) "Negative differential input", 8 ~{SHUTDOWN} (in) "Places the amplifier in shutdown mode when a TTL logic low is applied to this terminal; places the amplifier in normal operation when a TTL logic high is applied", 9 FAULT1 (oc) "Fault flag 1, high when active open drain output (see application information)", 10 FAULT0 (oc) "Fault flag 0, low when active open drain output (see application information)", 14 H/C (hiz) "Direction control output for heat and cool modes (4 pins)", 15 H/C (hiz) "Direction control output for heat and cool modes (4 pins)", 16 H/C (hiz) "Direction control output for heat and cool modes (4 pins)", 17 H/C (hiz) "Direction control output for heat and cool modes (4 pins)", 24 PWM (hiz) "PWM output for voltage magnitude (4 pins)", 25 PWM (hiz) "PWM output for voltage magnitude (4 pins)", 26 PWM (hiz) "PWM output for voltage magnitude (4 pins)", 27 PWM (hiz) "PWM output for voltage magnitude (4 pins)", 31 INT/~{EXT} (in) "Selects the internal oscillator when a TTL logic high is applied to this terminal; selects the use of an external oscillator when a TTL logic low is applied to this terminal", 32 FREQ (in) "Selects 500 kHz switching frequency when a TTL logic low is applied to this terminal; selects 100 kHz switching frequency when a TTL logic high is applied"
part B pins: 1 AVDD (power) "Analog power supply", 2 AGND (power) "Analog ground", 11 PVDD (power) "High-current power supply (6 pins)", 12 PVDD (power) "High-current power supply (6 pins)", 13 PVDD (power) "High-current power supply (6 pins)", 18 PGND (power) "High-current ground (6 pins)", 19 PGND (power) "High-current ground (6 pins)", 20 PGND (power) "High-current ground (6 pins)", 21 PGND (power) "High-current ground (6 pins)", 22 PGND (power) "High-current ground (6 pins)", 23 PGND (power) "High-current ground (6 pins)", 28 PVDD (power) "High-current power supply (6 pins)", 29 PVDD (power) "High-current power supply (6 pins)", 30 PVDD (power) "High-current power supply (6 pins)", 33 EP (power) "Exposed thermal pad"

## DRV593VFPG4
designator U?
+/-3 A High-Efficiency PWM Power Driver, -40 to 85 degC, 32-pin QFP (VFP32); Manufacturer: Texas Instruments; PartNumber: DRV593VFPG4; Iq(mA): 4; Iq(Max)(mA): 12; rDS(on)(Ohms): 0.06; Thermal Shutdown: TRUE; Vs(Max)(V): 5.5; Vs(Min)(V): 2.8; DatasheetVersion: SLOS401C; PackageVersion: 4200791/C, 04/2012; PackageReference: VFP32-3505X3505TP; PackageDescription: 32-Pin PowerPAD(TM) Plastic Quad Flatpack, Body 7 x 7 mm, Pitch 0.8 mm; Supplier 1: Mouser; Supplier Part Number 1: N/A; Mounting Technology: Surface Mount; Code_JEDEC: MS-026; ComponentLink1Description: Manufacturer URL; ComponentLink1URL: http://www.ti.com/; ComponentLink2Description: Datasheet; ComponentLink2URL: http://www.ti.com/general/docs/lit/getliterature.tsp?genericPartNumber=DRV593&fileType=pdf; ComponentLink3Description: Package Specification; ComponentLink3URL: http://www.ti.com/lit/ml/mpqf098b/mpqf098b.pdf
footprint TI-VFP32-3505X3505TP_N (QFP, 32-Leads, Body 7x7mm, Pitch 0.8mm, Thermal Pad 3.505x3.505mm, IPC Medium Density)
footprint TI-VFP32-3505X3505TP_L (QFP, 32-Leads, Body 7x7mm, Pitch 0.8mm, Thermal Pad 3.505x3.505mm, IPC High Density)
footprint TI-VFP32-3505X3505TP_M (QFP, 32-Leads, Body 7x7mm, Pitch 0.8mm, Thermal Pad 3.505x3.505mm, IPC Low Density)
part A pins: 3 ROSC "Connect 120-kohm resistor to AGND to set oscillation frequency (either 500 kHz or 100 kHz). Not needed if an external clock is used", 4 COSC "Connect capacitor to ground to set oscillation frequency (220 pF for 500 kHz, 1 nF for 100 kHz) when the internal oscillator is selected; connect clock signal when an external oscillator is used", 5 AREF "Connect 1uF capacitor to ground for AREF voltage filtering", 6 IN+ (in) "Positive differential input", 7 IN- (in) "Negative differential input", 8 ~{SHUTDOWN} (in) "Places the amplifier in shutdown mode when a TTL logic low is applied to this terminal; places the amplifier in normal operation when a TTL logic high is applied", 9 FAULT1 (oc) "Fault flag 1, high when active open drain output (see application information)", 10 FAULT0 (oc) "Fault flag 0, low when active open drain output (see application information)", 14 H/C (hiz) "Direction control output for heat and cool modes (4 pins)", 15 H/C (hiz) "Direction control output for heat and cool modes (4 pins)", 16 H/C (hiz) "Direction control output for heat and cool modes (4 pins)", 17 H/C (hiz) "Direction control output for heat and cool modes (4 pins)", 24 PWM (hiz) "PWM output for voltage magnitude (4 pins)", 25 PWM (hiz) "PWM output for voltage magnitude (4 pins)", 26 PWM (hiz) "PWM output for voltage magnitude (4 pins)", 27 PWM (hiz) "PWM output for voltage magnitude (4 pins)", 31 INT/~{EXT} (in) "Selects the internal oscillator when a TTL logic high is applied to this terminal; selects the use of an external oscillator when a TTL logic low is applied to this terminal", 32 FREQ (in) "Selects 500 kHz switching frequency when a TTL logic low is applied to this terminal; selects 100 kHz switching frequency when a TTL logic high is applied"
part B pins: 1 AVDD (power) "Analog power supply", 2 AGND (power) "Analog ground", 11 PVDD (power) "High-current power supply (6 pins)", 12 PVDD (power) "High-current power supply (6 pins)", 13 PVDD (power) "High-current power supply (6 pins)", 18 PGND (power) "High-current ground (6 pins)", 19 PGND (power) "High-current ground (6 pins)", 20 PGND (power) "High-current ground (6 pins)", 21 PGND (power) "High-current ground (6 pins)", 22 PGND (power) "High-current ground (6 pins)", 23 PGND (power) "High-current ground (6 pins)", 28 PVDD (power) "High-current power supply (6 pins)", 29 PVDD (power) "High-current power supply (6 pins)", 30 PVDD (power) "High-current power supply (6 pins)", 33 EP (power) "Exposed thermal pad"

## DRV593VFPR
designator U?
+/-3 A High-Efficiency PWM Power Driver, -40 to 85 degC, 32-pin QFP (VFP32), Green (RoHS & no Sb/Br); Manufacturer: Texas Instruments; PartNumber: DRV593VFPR; Iq(mA): 4; Iq(Max)(mA): 12; rDS(on)(Ohms): 0.06; Thermal Shutdown: TRUE; Vs(Max)(V): 5.5; Vs(Min)(V): 2.8; DatasheetVersion: SLOS401C; PackageVersion: 4200791/C, 04/2012; PackageReference: VFP32-3505X3505TP; PackageDescription: 32-Pin PowerPAD(TM) Plastic Quad Flatpack, Body 7 x 7 mm, Pitch 0.8 mm; Supplier 1: Digi-Key; Supplier Part Number 1: 296-13643-2-ND; Supplier 2: Digi-Key; Supplier Part Number 2: 296-13643-1-ND; Supplier 3: Digi-Key; Supplier Part Number 3: 296-13643-6-ND; Supplier 4: Farnell; Supplier Part Number 4: 1212391; Supplier 5: Newark; Supplier Part Number 5: 02E2694; Supplier 6: Newark; Supplier Part Number 6: 28X3374; Supplier 7: Mouser; Supplier Part Number 7: 595-DRV593VFPR; Eco-Plan: Green (RoHS & no Sb/Br); Mounting Technology: Surface Mount; Code_JEDEC: MS-026; ComponentLink1Description: Manufacturer URL; ComponentLink1URL: http://www.ti.com/; ComponentLink2Description: Datasheet; ComponentLink2URL: http://www.ti.com/general/docs/lit/getliterature.tsp?genericPartNumber=DRV593&fileType=pdf; ComponentLink3Description: Package Specification; ComponentLink3URL: http://www.ti.com/lit/ml/mpqf098b/mpqf098b.pdf
footprint TI-VFP32-3505X3505TP_N (QFP, 32-Leads, Body 7x7mm, Pitch 0.8mm, Thermal Pad 3.505x3.505mm, IPC Medium Density)
footprint TI-VFP32-3505X3505TP_L (QFP, 32-Leads, Body 7x7mm, Pitch 0.8mm, Thermal Pad 3.505x3.505mm, IPC High Density)
footprint TI-VFP32-3505X3505TP_M (QFP, 32-Leads, Body 7x7mm, Pitch 0.8mm, Thermal Pad 3.505x3.505mm, IPC Low Density)
part A pins: 3 ROSC "Connect 120-kohm resistor to AGND to set oscillation frequency (either 500 kHz or 100 kHz). Not needed if an external clock is used", 4 COSC "Connect capacitor to ground to set oscillation frequency (220 pF for 500 kHz, 1 nF for 100 kHz) when the internal oscillator is selected; connect clock signal when an external oscillator is used", 5 AREF "Connect 1uF capacitor to ground for AREF voltage filtering", 6 IN+ (in) "Positive differential input", 7 IN- (in) "Negative differential input", 8 ~{SHUTDOWN} (in) "Places the amplifier in shutdown mode when a TTL logic low is applied to this terminal; places the amplifier in normal operation when a TTL logic high is applied", 9 FAULT1 (oc) "Fault flag 1, high when active open drain output (see application information)", 10 FAULT0 (oc) "Fault flag 0, low when active open drain output (see application information)", 14 H/C (hiz) "Direction control output for heat and cool modes (4 pins)", 15 H/C (hiz) "Direction control output for heat and cool modes (4 pins)", 16 H/C (hiz) "Direction control output for heat and cool modes (4 pins)", 17 H/C (hiz) "Direction control output for heat and cool modes (4 pins)", 24 PWM (hiz) "PWM output for voltage magnitude (4 pins)", 25 PWM (hiz) "PWM output for voltage magnitude (4 pins)", 26 PWM (hiz) "PWM output for voltage magnitude (4 pins)", 27 PWM (hiz) "PWM output for voltage magnitude (4 pins)", 31 INT/~{EXT} (in) "Selects the internal oscillator when a TTL logic high is applied to this terminal; selects the use of an external oscillator when a TTL logic low is applied to this terminal", 32 FREQ (in) "Selects 500 kHz switching frequency when a TTL logic low is applied to this terminal; selects 100 kHz switching frequency when a TTL logic high is applied"
part B pins: 1 AVDD (power) "Analog power supply", 2 AGND (power) "Analog ground", 11 PVDD (power) "High-current power supply (6 pins)", 12 PVDD (power) "High-current power supply (6 pins)", 13 PVDD (power) "High-current power supply (6 pins)", 18 PGND (power) "High-current ground (6 pins)", 19 PGND (power) "High-current ground (6 pins)", 20 PGND (power) "High-current ground (6 pins)", 21 PGND (power) "High-current ground (6 pins)", 22 PGND (power) "High-current ground (6 pins)", 23 PGND (power) "High-current ground (6 pins)", 28 PVDD (power) "High-current power supply (6 pins)", 29 PVDD (power) "High-current power supply (6 pins)", 30 PVDD (power) "High-current power supply (6 pins)", 33 EP (power) "Exposed thermal pad"

## DRV593VFPRG4
designator U?
+/-3 A High-Efficiency PWM Power Driver, -40 to 85 degC, 32-pin QFP (VFP32); Manufacturer: Texas Instruments; PartNumber: DRV593VFPRG4; Iq(mA): 4; Iq(Max)(mA): 12; rDS(on)(Ohms): 0.06; Thermal Shutdown: TRUE; Vs(Max)(V): 5.5; Vs(Min)(V): 2.8; DatasheetVersion: SLOS401C; PackageVersion: 4200791/C, 04/2012; PackageReference: VFP32-3505X3505TP; PackageDescription: 32-Pin PowerPAD(TM) Plastic Quad Flatpack, Body 7 x 7 mm, Pitch 0.8 mm; Supplier 1: Mouser; Supplier Part Number 1: N/A; Mounting Technology: Surface Mount; Code_JEDEC: MS-026; ComponentLink1Description: Manufacturer URL; ComponentLink1URL: http://www.ti.com/; ComponentLink2Description: Datasheet; ComponentLink2URL: http://www.ti.com/general/docs/lit/getliterature.tsp?genericPartNumber=DRV593&fileType=pdf; ComponentLink3Description: Package Specification; ComponentLink3URL: http://www.ti.com/lit/ml/mpqf098b/mpqf098b.pdf
footprint TI-VFP32-3505X3505TP_N (QFP, 32-Leads, Body 7x7mm, Pitch 0.8mm, Thermal Pad 3.505x3.505mm, IPC Medium Density)
footprint TI-VFP32-3505X3505TP_L (QFP, 32-Leads, Body 7x7mm, Pitch 0.8mm, Thermal Pad 3.505x3.505mm, IPC High Density)
footprint TI-VFP32-3505X3505TP_M (QFP, 32-Leads, Body 7x7mm, Pitch 0.8mm, Thermal Pad 3.505x3.505mm, IPC Low Density)
part A pins: 3 ROSC "Connect 120-kohm resistor to AGND to set oscillation frequency (either 500 kHz or 100 kHz). Not needed if an external clock is used", 4 COSC "Connect capacitor to ground to set oscillation frequency (220 pF for 500 kHz, 1 nF for 100 kHz) when the internal oscillator is selected; connect clock signal when an external oscillator is used", 5 AREF "Connect 1uF capacitor to ground for AREF voltage filtering", 6 IN+ (in) "Positive differential input", 7 IN- (in) "Negative differential input", 8 ~{SHUTDOWN} (in) "Places the amplifier in shutdown mode when a TTL logic low is applied to this terminal; places the amplifier in normal operation when a TTL logic high is applied", 9 FAULT1 (oc) "Fault flag 1, high when active open drain output (see application information)", 10 FAULT0 (oc) "Fault flag 0, low when active open drain output (see application information)", 14 H/C (hiz) "Direction control output for heat and cool modes (4 pins)", 15 H/C (hiz) "Direction control output for heat and cool modes (4 pins)", 16 H/C (hiz) "Direction control output for heat and cool modes (4 pins)", 17 H/C (hiz) "Direction control output for heat and cool modes (4 pins)", 24 PWM (hiz) "PWM output for voltage magnitude (4 pins)", 25 PWM (hiz) "PWM output for voltage magnitude (4 pins)", 26 PWM (hiz) "PWM output for voltage magnitude (4 pins)", 27 PWM (hiz) "PWM output for voltage magnitude (4 pins)", 31 INT/~{EXT} (in) "Selects the internal oscillator when a TTL logic high is applied to this terminal; selects the use of an external oscillator when a TTL logic low is applied to this terminal", 32 FREQ (in) "Selects 500 kHz switching frequency when a TTL logic low is applied to this terminal; selects 100 kHz switching frequency when a TTL logic high is applied"
part B pins: 1 AVDD (power) "Analog power supply", 2 AGND (power) "Analog ground", 11 PVDD (power) "High-current power supply (6 pins)", 12 PVDD (power) "High-current power supply (6 pins)", 13 PVDD (power) "High-current power supply (6 pins)", 18 PGND (power) "High-current ground (6 pins)", 19 PGND (power) "High-current ground (6 pins)", 20 PGND (power) "High-current ground (6 pins)", 21 PGND (power) "High-current ground (6 pins)", 22 PGND (power) "High-current ground (6 pins)", 23 PGND (power) "High-current ground (6 pins)", 28 PVDD (power) "High-current power supply (6 pins)", 29 PVDD (power) "High-current power supply (6 pins)", 30 PVDD (power) "High-current power supply (6 pins)", 33 EP (power) "Exposed thermal pad"

## DRV594VFP
designator U?
+/-3 A High-Efficiency PWM Power Driver, -40 to 85 degC, 32-pin QFP (VFP32), Green (RoHS & no Sb/Br); Manufacturer: Texas Instruments; PartNumber: DRV594VFP; Iq(mA): 4; Iq(Max)(mA): 12; rDS(on)(Ohms): 0.06; Thermal Shutdown: TRUE; Vs(Max)(V): 5.5; Vs(Min)(V): 2.8; DatasheetVersion: SLOS401C; PackageVersion: 4200791/C, 04/2012; PackageReference: VFP32-3505X3505TP; PackageDescription: 32-Pin PowerPAD(TM) Plastic Quad Flatpack, Body 7 x 7 mm, Pitch 0.8 mm; Supplier 1: Digi-Key; Supplier Part Number 1: DRV594VFP-ND; Supplier 2: Newark; Supplier Part Number 2: 03P0856; Supplier 3: Mouser; Supplier Part Number 3: 595-DRV594VFP; Eco-Plan: Green (RoHS & no Sb/Br); Mounting Technology: Surface Mount; Code_JEDEC: MS-026; ComponentLink1Description: Manufacturer URL; ComponentLink1URL: http://www.ti.com/; ComponentLink2Description: Datasheet; ComponentLink2URL: http://www.ti.com/general/docs/lit/getliterature.tsp?genericPartNumber=DRV594&fileType=pdf; ComponentLink3Description: Package Specification; ComponentLink3URL: http://www.ti.com/lit/ml/mpqf098b/mpqf098b.pdf
footprint TI-VFP32-3505X3505TP_N (QFP, 32-Leads, Body 7x7mm, Pitch 0.8mm, Thermal Pad 3.505x3.505mm, IPC Medium Density)
footprint TI-VFP32-3505X3505TP_L (QFP, 32-Leads, Body 7x7mm, Pitch 0.8mm, Thermal Pad 3.505x3.505mm, IPC High Density)
footprint TI-VFP32-3505X3505TP_M (QFP, 32-Leads, Body 7x7mm, Pitch 0.8mm, Thermal Pad 3.505x3.505mm, IPC Low Density)
part A pins: 3 ROSC "Connect 120-kohm resistor to AGND to set oscillation frequency (either 500 kHz or 100 kHz). Not needed if an external clock is used", 4 COSC "Connect capacitor to ground to set oscillation frequency (220 pF for 500 kHz, 1 nF for 100 kHz) when the internal oscillator is selected; connect clock signal when an external oscillator is used", 5 AREF "Connect 1uF capacitor to ground for AREF voltage filtering", 6 IN+ (in) "Positive differential input", 7 IN- (in) "Negative differential input", 8 ~{SHUTDOWN} (in) "Places the amplifier in shutdown mode when a TTL logic low is applied to this terminal; places the amplifier in normal operation when a TTL logic high is applied", 9 FAULT1 (oc) "Fault flag 1, high when active open drain output (see application information)", 10 FAULT0 (oc) "Fault flag 0, low when active open drain output (see application information)", 14 H/C (hiz) "Direction control output for heat and cool modes (4 pins)", 15 H/C (hiz) "Direction control output for heat and cool modes (4 pins)", 16 H/C (hiz) "Direction control output for heat and cool modes (4 pins)", 17 H/C (hiz) "Direction control output for heat and cool modes (4 pins)", 24 PWM (hiz) "PWM output for voltage magnitude (4 pins)", 25 PWM (hiz) "PWM output for voltage magnitude (4 pins)", 26 PWM (hiz) "PWM output for voltage magnitude (4 pins)", 27 PWM (hiz) "PWM output for voltage magnitude (4 pins)", 31 INT/~{EXT} (in) "Selects the internal oscillator when a TTL logic high is applied to this terminal; selects the use of an external oscillator when a TTL logic low is applied to this terminal", 32 FREQ (in) "Selects 500 kHz switching frequency when a TTL logic low is applied to this terminal; selects 100 kHz switching frequency when a TTL logic high is applied"
part B pins: 1 AVDD (power) "Analog power supply", 2 AGND (power) "Analog ground", 11 PVDD (power) "High-current power supply (6 pins)", 12 PVDD (power) "High-current power supply (6 pins)", 13 PVDD (power) "High-current power supply (6 pins)", 18 PGND (power) "High-current ground (6 pins)", 19 PGND (power) "High-current ground (6 pins)", 20 PGND (power) "High-current ground (6 pins)", 21 PGND (power) "High-current ground (6 pins)", 22 PGND (power) "High-current ground (6 pins)", 23 PGND (power) "High-current ground (6 pins)", 28 PVDD (power) "High-current power supply (6 pins)", 29 PVDD (power) "High-current power supply (6 pins)", 30 PVDD (power) "High-current power supply (6 pins)", 33 EP (power) "Exposed thermal pad"

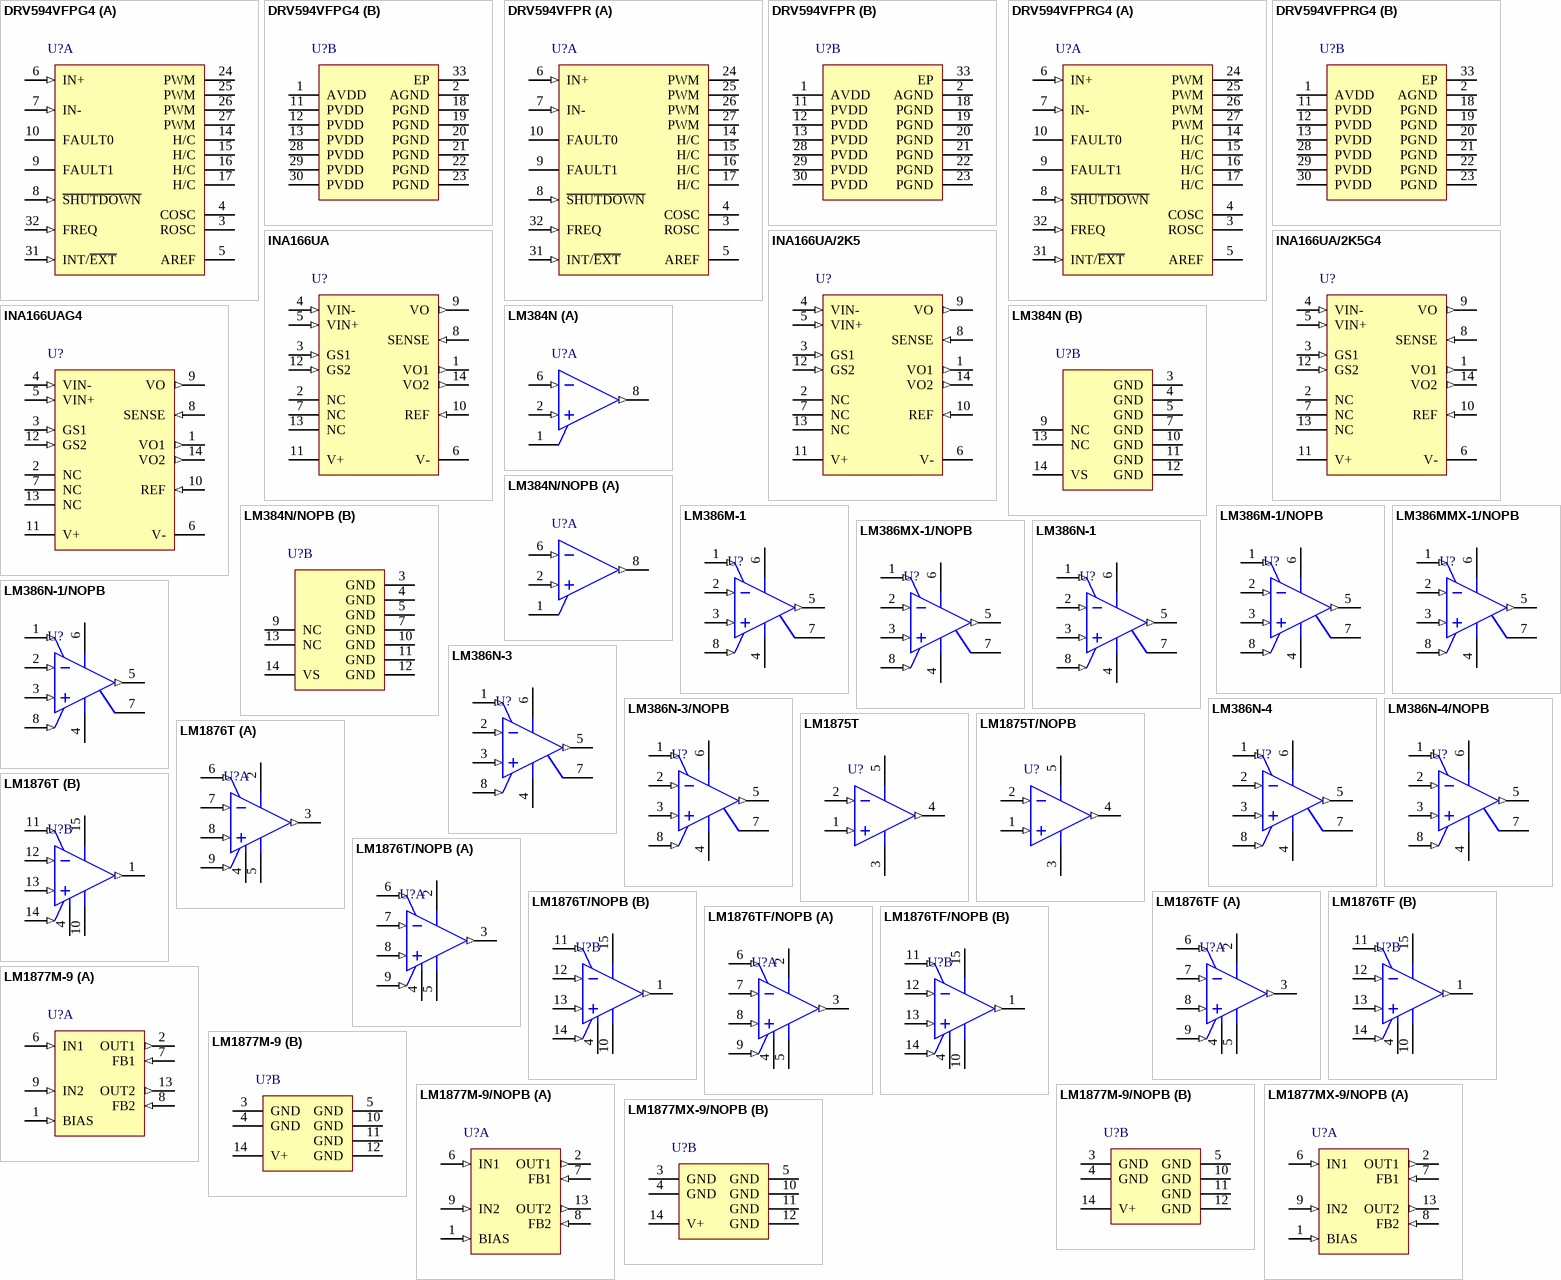
[diagram p2: symbols DRV594VFPG4 to LM1877MX-9/NOPB]